# Altium footprint library PCB2.PcbLib: 98 footprints (part 2 of 7)
Each footprint in its own frame and in the unit in brackets; x right, y up, seen from the top. Pads: shape width x height; smd on the part's side, far side on the other; paste and mask are expansions set on the pad; w line width, h text height; cw(c..) or ccw(c..) is an arc to the next point about the centre after c.
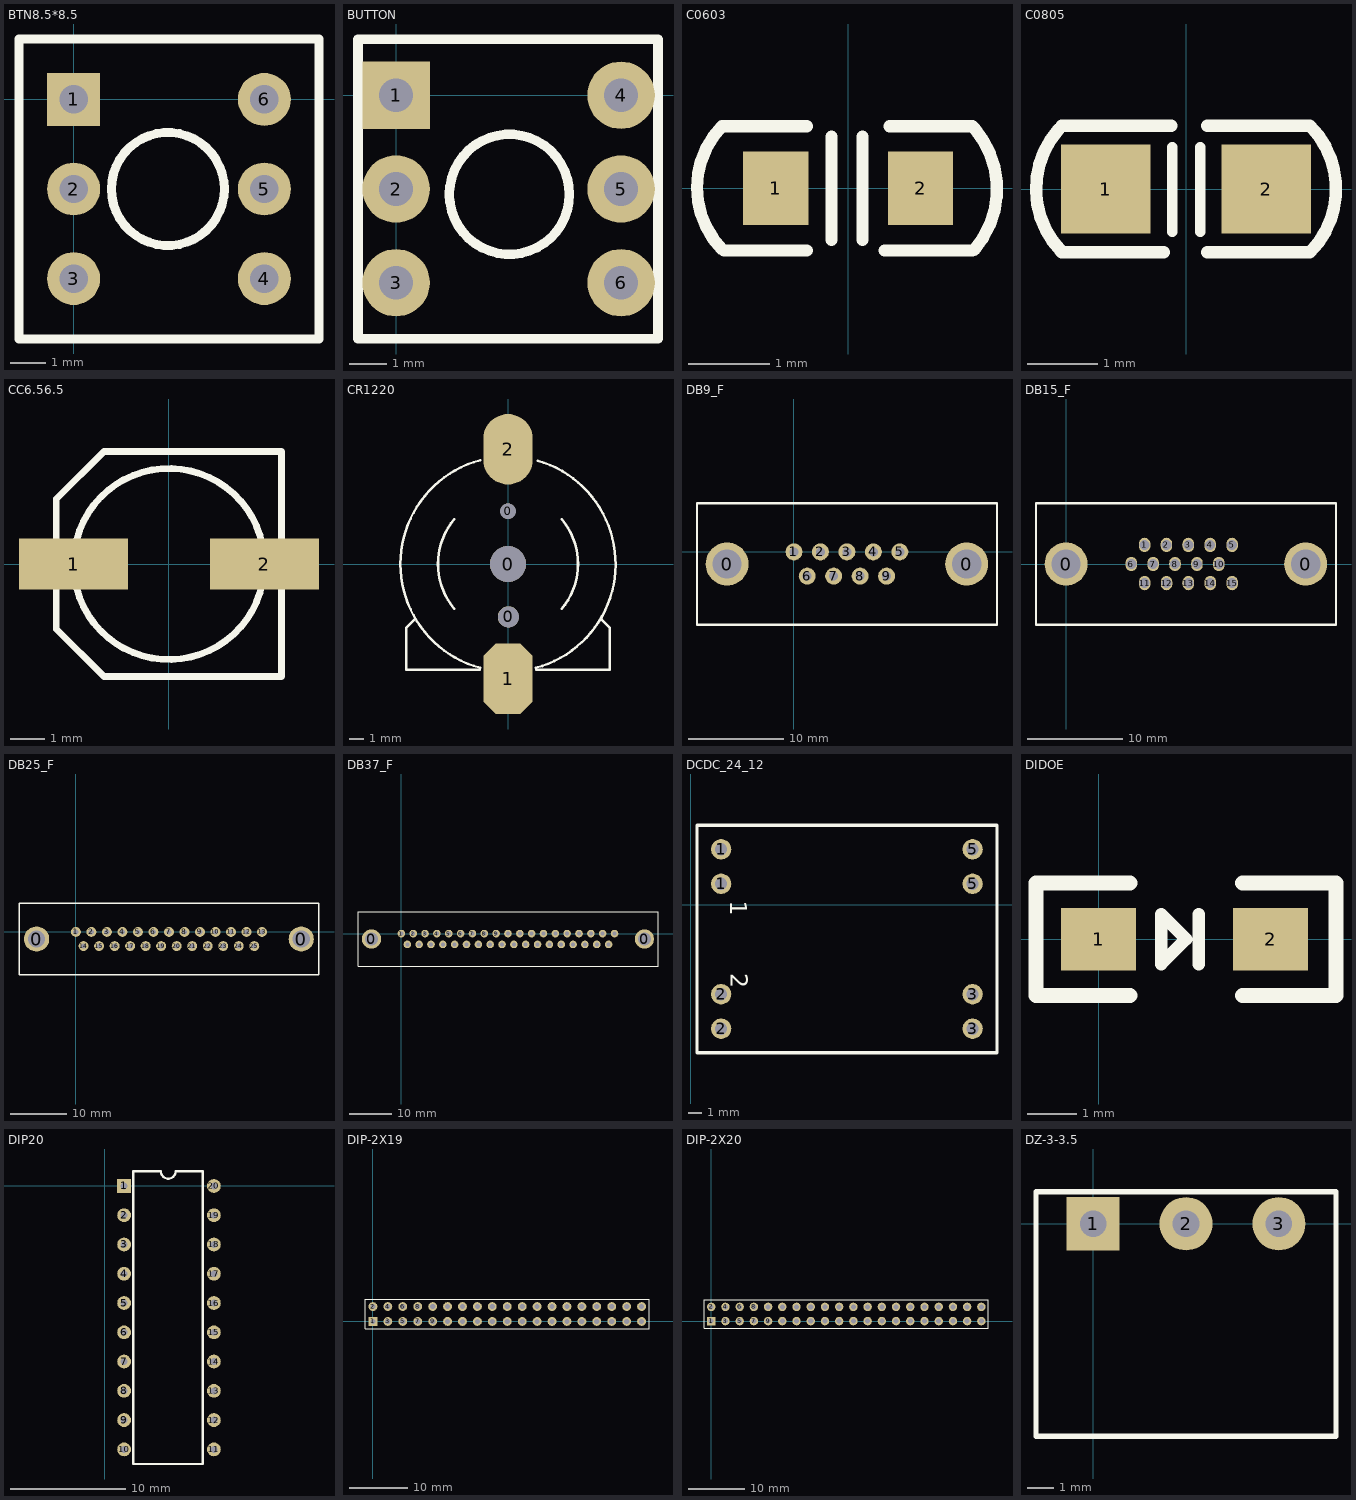
[diagram p1: the footprints below, top view; thin cyan lines are the x and y axes]

## BTN8.5*8.5 [mm]
height 1.75
pads (6):
  rect 1.5x1.5 hole 0.8: 1(0,0)
  round 1.5 hole 0.8: 2(0,-2.54) 3(0,-5.08) 4(5.4,-5.08) 5(5.4,-2.54) 6(5.4,0)
Top Overlay:
  circle w0.254: c2.667,-2.54 r1.6
  lines w0.254: -1.55,-6.79 -1.55,1.71 6.95,1.71 6.95,-6.79 -1.55,-6.79

## BUTTON [mm]
height 1.75
pads (6):
  rect 1.8x1.8 hole 0.9: 1(0,0)
  round 1.8 hole 0.9: 2(0,-2.5) 3(0,-5) 4(6,0) 5(6,-2.5) 6(6,-5)
Top Overlay:
  circle w0.254: c3.023,-2.642 r1.6
  lines w0.254: 6.984,-6.5 -1.016,-6.5 -1.016,1.5 6.984,1.5 ; 6.985,-6.5 6.985,1.5
3D body "TL 2201.step": height 14, standoff -3.5, extent -1.253,-6.775 7.247,1.725

## C0603 [mm]
pads (2):
  rect 0.8x0.9 smd: 1(-0.889,0) 2(0.889,0)
Top Overlay:
  lines w0.15: -1.554,-0.743 cw(c-0.77,0.007) -1.549,0.762 ; -1.524,-0.762 -0.508,-0.762 ; -1.524,0.762 -0.508,0.762 ; -0.203,-0.635 -0.203,0.635 ; 0.178,-0.635 0.178,0.635 ; 0.445,-0.762 1.524,-0.762 ; 0.508,0.762 1.524,0.762 ; 1.545,-0.758 ccw(c0.691,-0.008) 1.549,0.737
3D body "C0603.STEP": height 0.45, standoff 0, extent -0.749,-0.394 0.851,0.406

## C0805 [mil]
pads (2):
  rect 50x50 smd: 1(-45,0) 2(45,0)
Top Overlay:
  lines w5.91: -7.75,-23.83 -7.75,23.41 ; 8,-23.83 8,23.41
  lines w7: -71.39,33.35 ccw(c-33.74,0) -70.09,-34.77 ; -69.64,-35.43 -12.52,-35.43 ; -69.64,35.43 -8.39,35.43 ; 11.82,-35.43 69.17,-35.43 ; 11.82,35.43 69.17,35.43 ; 69.31,-35.57 ccw(c33.74,0) 69.31,35.57
3D body "C0805.STEP": height 19.68, standoff 0, extent -39,-25 39.74,24.21

## CC6.56.5 [mm]
pads (2):
  rect 3.2x1.5 smd: 1(-2.794,0) 2(2.8,0)
Top Overlay:
  circle w0.2: c0,0 r2.8
  lines w0.2: -3.302,-1.905 -1.905,-3.302 3.302,-3.302 3.302,3.302 -1.905,3.302 -3.302,1.905 -3.302,-1.905

## CR1220 [mm]
height 3
pads (5):
  round 2.54 hole 2.54: 0(0,0)
  round 1.1 hole 1.1: 0(0,3.75)
  round 1.5 hole 1.5: 0(0.025,-3.75)
  oct 3.5x5 smd: 1(0,-8.128)
  oval 3.5x5 smd: 2(0,8.128)
Top Overlay:
  lines w0.178: -6.6,-3.9 -7.2,-4.5 -7.2,-7.5 -2,-7.5 ; -3.815,-3.169 cw(c0,0) -3.812,3.172 ; -1.963,-7.363 cw(c0,0) -7.62,0 cw(c0,0) -1.963,7.363 ; 1.963,-7.363 ccw(c0,0) 2.093,7.327 ; 2,-7.5 7.2,-7.5 7.2,-4.5 6.625,-3.925 ; 3.81,-3.175 ccw(c0,0) 3.812,3.172

## DB9_F [mil]
pads (11):
  round 177 hole 120: 0(-275.59,-50) 0(711.81,-50)
  round 70 hole 37: 1(0,0) 2(109.06,0) 3(218.11,0) 4(327.17,0) 5(436.22,0) 6(54.53,-100) 7(163.58,-100) 8(272.64,-100) 9(381.69,-100)
Top Overlay:
  lines w10: -399.59,-300 -399.59,200 836.63,200 836.63,-300 -399.59,-300

## DB15_F [mm]
pads (17):
  round 4.5 hole 3.05: 0(0,0) 0(25.08,0)
  oval 1.2x1.5 hole 1.04: 1(8.214,2) 2(10.504,2) 3(12.794,2) 4(15.084,2) 5(17.374,2) 6(6.825,0) 7(9.115,0) 8(11.405,0) 9(13.695,0) 10(15.985,0) 11(8.222,-2) 12(10.512,-2) 13(12.802,-2) 14(15.092,-2) 15(17.382,-2)
Top Overlay:
  lines w0.254: 10.897,0 11.151,0 11.405,0 ; 12.286,2 12.54,2 12.794,2 ; 12.294,-2 12.548,-2 12.802,-2 ; -3.15,-6.35 28.25,-6.35 28.25,6.35 -3.15,6.35 -3.15,-6.35

## DB25_F [mil]
pads (27):
  round 177 hole 120: 0(-275.59,-50) 0(1584.25,-50)
  round 70 hole 37: 1(0,0) 2(109.06,0) 3(218.11,0) 4(327.17,0) 5(436.22,0) 6(545.28,0) 7(654.33,0) 8(763.39,0) 9(872.44,0) 10(981.5,0) 11(1090.55,0) 12(1199.61,0) 13(1308.66,0) 14(54.53,-100) 15(163.58,-100) 16(272.64,-100) 17(381.69,-100) 18(490.75,-100) 19(599.8,-100) 20(708.86,-100) 21(817.91,-100) 22(926.97,-100) 23(1036.02,-100) 24(1145.08,-100) 25(1254.13,-100)
Top Overlay:
  lines w10: -399.59,-300 -399.59,200 836.63,200 1709.07,200 1709.07,-300 836.63,-300 -399.59,-300

## DB37_F [mil]
pads (39):
  round 177 hole 120: 0(-275.59,-50) 0(2238.58,-50)
  round 70 hole 37: 1(0,0) 2(109.06,0) 3(218.11,0) 4(327.17,0) 5(436.22,0) 6(545.28,0) 7(654.33,0) 8(763.39,0) 9(872.44,0) 10(981.5,0) 11(1090.55,0) 12(1199.61,0) 13(1308.66,0) 14(1417.72,0) 15(1526.77,0) 16(1635.83,0) 17(1744.88,0) 18(1853.94,0) 19(1962.99,0) 20(54.53,-100) 21(163.58,-100) 22(272.64,-100) 23(381.69,-100) 24(490.75,-100) 25(599.8,-100) 26(708.86,-100) 27(817.91,-100) 28(926.97,-100) 29(1036.02,-100) 30(1145.08,-100) 31(1254.13,-100) 32(1363.19,-100) 33(1472.24,-100) 34(1581.3,-100) 35(1690.35,-100) 36(1799.41,-100) 37(1908.46,-100)
Top Overlay:
  lines w10: 1490.96,-300 2363.4,-300 2363.4,200 1490.96,200 ; 1709.07,-300 836.63,-300 -399.59,-300 -399.59,200 836.63,200 1709.07,200

## DCDC_24_12 [mm]
pads (8):
  round 1.5 hole 0.9: 1(2.235,1.524) 1(2.235,4.064) 2(2.235,-9.144) 2(2.235,-6.604) 3(20.759,-9.144) 3(20.759,-6.604) 5(20.759,1.524) 5(20.759,4.064)
Top Overlay:
  lines w0.254: 0.457,4.064 0.457,5.842 ; 2.235,5.842 0.457,5.842 ; 0.457,5.842 0.457,-10.922 18.981,-10.922 22.555,-10.922 22.555,5.842 0.457,5.842
  text "1" at 2.896,0.279 h1.27
  text "2" at 2.946,-5.055 h1.27

## DIDOE [mil]
pads (2):
  rect 60x50 smd: 1(0,0) 2(137.8,0)
Top Overlay:
  lines w10: 80,-20 80,20 ; 50,-20 50,20 70,0 50,-20
  lines w12: 25,-45 -50,-45 -50,45 25,45 ; 115,-45 190,-45 190,45 115,45

## DIP20 [mm]
pads (20):
  rect 1.2x1.2 hole 0.6: 1(1.668,0)
  round 1.2 hole 0.6: 2(1.668,-2.54) 3(1.668,-5.08) 4(1.668,-7.62) 5(1.668,-10.16) 6(1.668,-12.7) 7(1.668,-15.24) 8(1.668,-17.78) 9(1.668,-20.32) 10(1.668,-22.86) 11(9.459,-22.86) 12(9.459,-20.32) 13(9.459,-17.78) 14(9.459,-15.24) 15(9.459,-12.7) 16(9.459,-10.16) 17(9.459,-7.62) 18(9.459,-5.08) 19(9.459,-2.54) 20(9.459,0)
Top Overlay:
  lines w0.2: 2.464,-24.13 8.484,-24.13 8.484,1.27 6.135,1.27 cw(c5.5,1.27) 4.865,1.27 2.464,1.27 2.464,-24.13
3D body "DIP-20-300.STEP": height 4.5, standoff -3.5, extent 1.657,-24.052 9.418,1.548

## DIP-2X19 [mm]
pads (38):
  rect 1.5x1.5 hole 0.9: 1(0,0)
  round 1.5 hole 0.9: 2(0,2.54) 3(2.54,0) 4(2.54,2.54) 5(5.08,0) 6(5.08,2.54) 7(7.62,0) 8(7.62,2.54) 9(10.16,0) 10(10.16,2.54) 11(12.7,0) 12(12.7,2.54) 13(15.24,0) 14(15.24,2.54) 15(17.78,0) 16(17.78,2.54) 17(20.32,0) 18(20.32,2.54) 19(22.86,0) 20(22.86,2.54) 21(25.4,0) 22(25.4,2.54) 23(27.94,0) 24(27.94,2.54) 25(30.48,0) 26(30.48,2.54) 27(33.02,0) 28(33.02,2.54) 29(35.56,0) 30(35.56,2.54) 31(38.1,0) 32(38.1,2.54) 33(40.64,0) 34(40.64,2.54) 35(43.18,0) 36(43.18,2.54) 37(45.72,0) 38(45.72,2.54)
Top Overlay:
  lines w0.2: 8.763,-1.27 46.99,-1.27 ; 8.89,-1.27 -1.27,-1.27 -1.27,3.81 8.89,3.81 46.99,3.81 ; 44.45,-1.27 46.99,-1.27 ; 44.45,3.81 46.99,3.81 ; 46.99,-1.27 46.99,3.81

## DIP-2X20 [mm]
pads (40):
  rect 1.5x1.5 hole 0.9: 1(0,0)
  round 1.5 hole 0.9: 2(0,2.54) 3(2.54,0) 4(2.54,2.54) 5(5.08,0) 6(5.08,2.54) 7(7.62,0) 8(7.62,2.54) 9(10.16,0) 10(10.16,2.54) 11(12.7,0) 12(12.7,2.54) 13(15.24,0) 14(15.24,2.54) 15(17.78,0) 16(17.78,2.54) 17(20.32,0) 18(20.32,2.54) 19(22.86,0) 20(22.86,2.54) 21(25.4,0) 22(25.4,2.54) 23(27.94,0) 24(27.94,2.54) 25(30.48,0) 26(30.48,2.54) 27(33.02,0) 28(33.02,2.54) 29(35.56,0) 30(35.56,2.54) 31(38.1,0) 32(38.1,2.54) 33(40.64,0) 34(40.64,2.54) 35(43.18,0) 36(43.18,2.54) 37(45.72,0) 38(45.72,2.54) 39(48.26,0) 40(48.26,2.54)
Top Overlay:
  lines w0.2: 8.763,-1.27 46.99,-1.27 49.53,-1.27 49.53,3.81 46.99,3.81 8.89,3.81 -1.27,3.81 -1.27,-1.27 8.89,-1.27

## DZ-3-3.5 [mm]
pads (3):
  rect 2x2 hole 1: 1(0,0)
  round 2 hole 1: 2(3.5,0) 3(7,0)
Top Overlay:
  lines w0.2: 5.65,1.2 3.5,1.2 ; 3.5,1.2 7,1.2 9.15,1.2 9.15,-8 5.65,-8 -2.15,-8 -2.15,1.2 0,1.2 3.5,1.2